# Altium schematic symbol library IR-Sensor.SCHLIB: 32 symbols
Pins are listed as number, name and electrical type; pins without a type are passive.

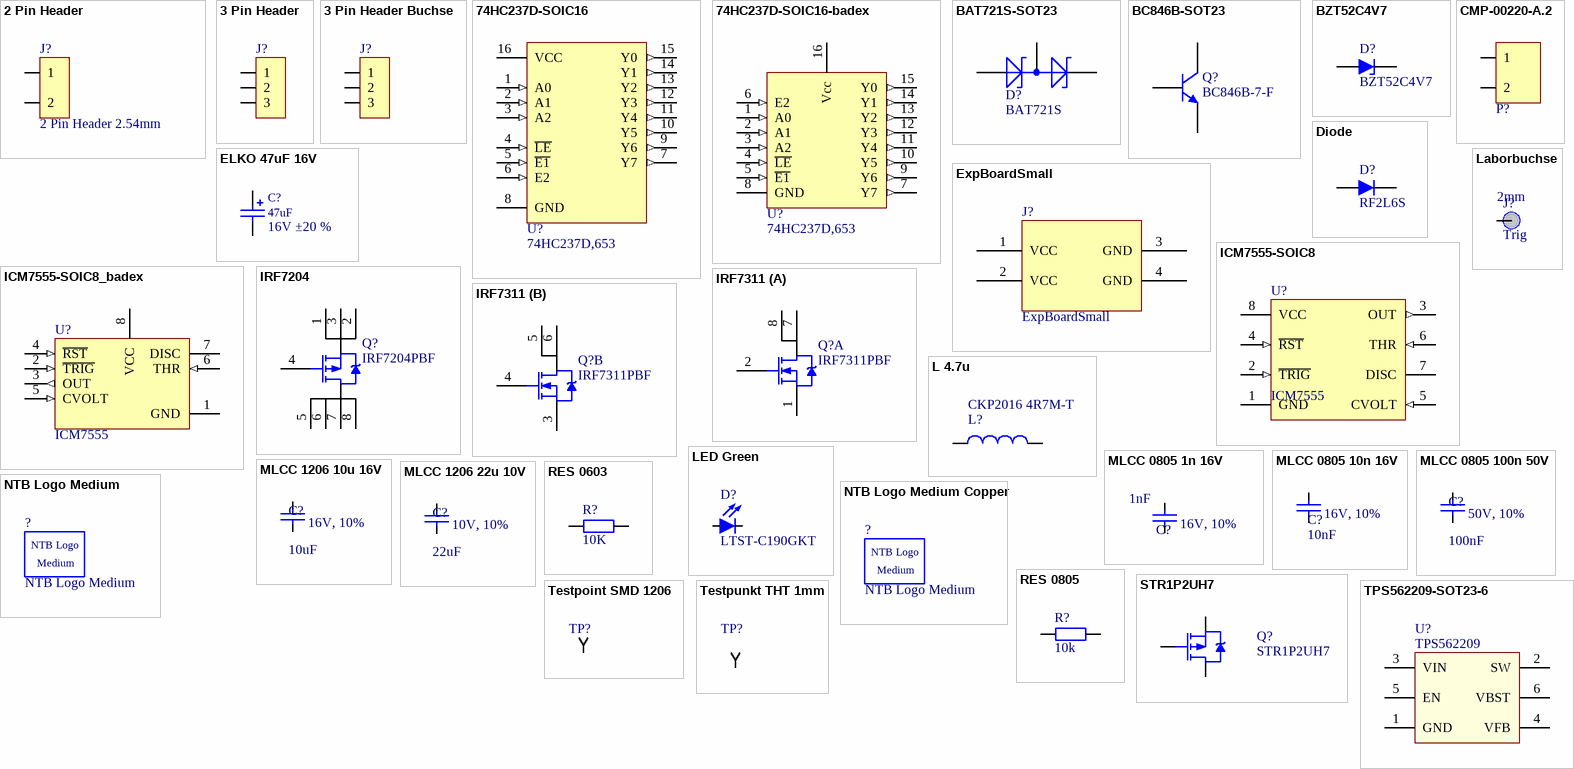
[diagram p0: symbols 2 Pin Header to TPS562209-SOT23-6]

## 2 Pin Header
designator J?, comment 2 Pin Header 2.54mm
footprint 2Pin Header 2.54mm
pins: 1, 2

## 3 Pin Header
designator J?  (value not drawn)
3 Pin Header 2.54mm; RefFootprint: GEN_Buchsenleiste-2.54MM_3; RefSchema: Gen_Buchsenleiste_3-Pin; #Class: *; #SubClass: *; Manufacturer: *; Manufacturer PartNr: *; Published: 16.12.2014; Publisher: SCLM; RefFileFOO: *; RefFileSCH: *; ComponentLink1Description: Manufacturer Link; ComponentLink1URL: *; ComponentLink2Description: Datasheet; ComponentLink2URL: *; Status: Lager?
footprint 3PIN HEADER 2.54MM
pins: 1, 2, 3

## 3 Pin Header Buchse
designator J?  (value not drawn)
3 Pin Header 2.54mm Buchse; #Class: *; #SubClass: *; Manufacturer: *; Manufacturer PartNr: *; ComponentLink1Description: Manufacturer Link; ComponentLink1URL: *; ComponentLink2Description: *; ComponentLink2URL: *
footprint 3PIN HEADER SOCKET 2.54MM
pins: 1, 2, 3

## 74HC237D-SOIC16
designator U?, comment 74HC237D,653
3-to-8 line decoder, demultiplexer, NXP, SO16; RefFootprint: NXP_SO16(SOT109-1)_H; RefSchema: NXP_74HC237D_SO-16; Supplier 1: Mouser Electronics; Supplier Part Number 1: 771-HC237D653; Manufacturer PartNr: 74HC237D,653; Status: nLager; #Class: *; #SubClass: *; Manufacturer: NXP; Published: 28.11.2014; Publisher: SCLM; RefFileFOO: *; RefFileSCH: *; ComponentLink1Description: Manufacturer Link; ComponentLink1URL: http://www.nxp.com/products/logic/decoders_demultiplexers/74HC237D.html; ComponentLink2Description: Datasheet; ComponentLink2URL: http://www.nxp.com/documents/data_sheet/74HC237.pdf
footprint SOIC-16
pins: 1 A0 (in), 2 A1 (in), 3 A2 (in), 4 ~{LE} (in), 5 ~{E1} (in), 6 E2 (in), 7 Y7 (out), 8 GND (power), 9 Y6 (out), 10 Y5 (out), 11 Y4 (out), 12 Y3 (out), 13 Y2 (out), 14 Y1 (out), 15 Y0 (out), 16 VCC (power)

## 74HC237D-SOIC16-badex
designator U?, comment 74HC237D,653
3-to-8 line decoder, demultiplexer, NXP, SO16; RefFootprint: NXP_SO16(SOT109-1)_H; RefSchema: NXP_74HC237D_SO-16; Supplier 1: Mouser Electronics; Supplier Part Number 1: 771-HC237D653; Manufacturer PartNr: 74HC237D,653; Status: nLager; #Class: *; #SubClass: *; Manufacturer: NXP; Published: 28.11.2014; Publisher: SCLM; RefFileFOO: *; RefFileSCH: *; ComponentLink1Description: Manufacturer Link; ComponentLink1URL: http://www.nxp.com/products/logic/decoders_demultiplexers/74HC237D.html; ComponentLink2Description: Datasheet; ComponentLink2URL: http://www.nxp.com/documents/data_sheet/74HC237.pdf
footprint SOIC-16
pins: 1 A0 (in), 2 A1 (in), 3 A2 (in), 4 ~{LE} (in), 5 ~{E1} (in), 6 E2 (in), 7 Y7 (out), 8 GND (power), 9 Y6 (out), 10 Y5 (out), 11 Y4 (out), 12 Y3 (out), 13 Y2 (out), 14 Y1 (out), 15 Y0 (out), 16 Vcc (power)

## BAT721S-SOT23
designator D?, comment BAT721S
NXP  BAT721S  SCHOTTKY-DIODE, 2FACH; RefFootprint: CDE_CAP AVE CODE D; RefSchema: CDE_AVE476M16D16T-F_AVE CODE D; ComponentLink1Description: Manufacturer Link; ComponentLink1URL: http://www.nxp.com/search?q=%09bat721s&type=keyword&rows=10; ComponentLink2Description: Datasheet; ComponentLink2URL: http://www.farnell.com/datasheets/453891.pdf; ComponentLink3Description: Packaging Specification; Distributor: Farnell; Distributor PartNr: 1081200; Manufacturer: NXP; Manufacturer PartNr: BAT721S; Published: 20150612; Publisher: SCNP
footprint SOT-23
pins: 1 Anode1, 2 cathode2, 3 Cathode1, anode2

## BC846B-SOT23
designator Q?, comment BC846B-7-F
NPN General-purpose Transistor; Manufacturer: DIODES INC; #Class: SEMICONDUCTOR-TRANSISTOR; #ClassSub: BJT-NPN; RefFootprint: DIODS_SOT23_1B2E3C_3_H; RefSchema: DIODS_BC846B-7-F_SOT23; Published: 17-Sep-2003; Publisher: Altium Limited; ComponentLink1Description: Manufacturer Link; ComponentLink1URL: http://www.diodes.com/products/catalog/detail.php?item-id=6689&popup=datasheet; ComponentLink2Description: Datasheet; ComponentLink2URL: http://www.diodes.com/datasheets/ds11108.pdf; ComponentLink3Description: Packaging Specification; ComponentLink3URL: http://www.diodes.com/datasheets/ap02001.pdf; Distributor: Farnell; Manufacturer PartNr: BC846B-7-F; Distributor PartNr: 1773617; Status: nLager; RefFileFOO: *; RefFileSCH: *
footprint SOT-23
pins: 1 B, 2 E, 3 C

## BZT52C4V7
designator D?
4.7V Zener-Diode, BZT52C4V7; Forward Current: 1.5 A; Forward Voltage: 1.25V; Reverse Voltage: 600V; ComponentLink1Description: Datasheet RF2L6S; ComponentLink1URL: V:\Diodes\RHOM_RF2L6S.pdf
footprint SOD-123 (SOD-123, 2 leads, plastic surface-mounted package)
pins: 1 K, 2 A

## CMP-00220-A.2
designator P?, comment 2 Pin Phoenix Contact Connector, 5mm  (value not drawn)
Phoenix Contact: PST1.3/2-5.0 with PTS1.5/2-PH-5.0
footprint 2 Pin Phoenix Contakt Stecker (PST-1.3/2-5.0)
pins: 1, 2

## Diode
designator D?, comment RF2L6S
Super Fast Recovery Rectifier; Forward Current: 1.5 A; Forward Voltage: 1.25V; Reverse Voltage: 600V; ComponentLink1Description: Datasheet RF2L6S; ComponentLink1URL: V:\Diodes\RHOM_RF2L6S.pdf
footprint SOD-106 (SOD-106, 2-Leads, Body 4.50x2.60mm, IPC Medium Density)
pins: 1 K, 2 A

## ELKO 47uF 16V
designator C?, comment value 47uF  ValueAddon: 16V ±20 %  (hidden comment: AVE476M16D16T-F)
ELKO, 47uF, 16V, CDE_AVE476M16D16T-F_AVE CODE D; Manufacturer: Cornell Dubilier; #Class: PASSIVE; #ClassSub: CAPACITOR; RefFootprint: CDE_CAP AVE CODE D; Distributor PartNr: 598-AVE476M16D16T-F; Distributor: Mouser; Published: 20121220; Publisher: Stefan Ursella, M.Eng; ComponentLink1Description: Manufacturer Link; ComponentLink2Description: Datasheet; ComponentLink2URL: http://www.cde.com/catalogs/AVE.pdf; ComponentLink3Description: Packaging Specification; Manufacturer PartNr: AVE476M16D16T-F; RefFileFOO: *; RefFileSCH: *; RefSchema: CDE_AVE476M16D16T-F_AVE CODE D
footprint CDE_CAP AVE CODE D_H (6.6mm-6.6mm-5.3mm_2Pin, Size Code D)
pins: 1 Pos, 2 Neg

## ExpBoardSmall
designator J?
footprint EXPBOARDCON (Experimetier Board Steckerpos)
pins: 1 VCC, 2 VCC, 3 GND, 4 GND

## ICM7555-SOIC8
designator U?, comment ICM7555
General purpose CMOS timer; Manufacturer: National Semiconductor; #Class: Analog; #SubClass: Timer Circuit; RefFootprint: NXP_SO8(SOT96-1)_H; RefSchema: NXP_ICM7555_SO-8; Published: 15/04/2002; Publisher: Altium Hobart Technology Centre; ComponentLink1Description: Datasheet; ComponentLink2Description: Distributor; ComponentLink1URL: http://www.datasheetcatalog.org/datasheet/intersil/fn2867.pdf; ComponentLink2URL: https://www.distrelec.ch/ishopWebFront/catalog/product.do/para/node/is/acaaabaaacaf/and/highlightNode/is/640145/and/id/is/01/and/series/is/1.html; Supplier 1: Mouser Electronics; Manufacturer PartNr: ICM7555; Supplier Part Number 1: 771-ICM7555; RefFileFOO: *; RefFileSCH: *; Status: nLager
footprint SOIC-8
pins: 1 GND (power), 2 ~{TRIG} (in), 3 OUT (out), 4 ~{RST} (in), 5 CVOLT (in), 6 THR (in), 7 DISC (oc), 8 VCC (power)

## ICM7555-SOIC8_badex
designator U?, comment ICM7555
General purpose CMOS timer; Manufacturer: National Semiconductor; #Class: Analog; #SubClass: Timer Circuit; RefFootprint: NXP_SO8(SOT96-1)_H; RefSchema: NXP_ICM7555_SO-8; Published: 15/04/2002; Publisher: Altium Hobart Technology Centre; ComponentLink1Description: Datasheet; ComponentLink2Description: Distributor; ComponentLink1URL: http://www.datasheetcatalog.org/datasheet/intersil/fn2867.pdf; ComponentLink2URL: https://www.distrelec.ch/ishopWebFront/catalog/product.do/para/node/is/acaaabaaacaf/and/highlightNode/is/640145/and/id/is/01/and/series/is/1.html; Supplier 1: Mouser Electronics; Manufacturer PartNr: ICM7555; Supplier Part Number 1: 771-ICM7555; RefFileFOO: *; RefFileSCH: *; Status: nLager
footprint SOIC-8
pins: 1 GND (power), 2 ~{TRIG} (in), 3 OUT (out), 4 ~{RST} (in), 5 CVOLT (in), 6 THR (in), 7 DISC (oc), 8 VCC (power)

## IRF7204
designator Q?, comment IRF7204PBF
High Power P-Kanal Mosfet; Manufacturer: International Rectifiers; RefFootprint: IRF_SO8_H; RefSchema: IRF_IRF7204_SO-8; Published: 8-Jun-2000; Publisher: Altium Limited; ComponentLink1Description: Manufacturer Link; ComponentLink1URL: http://www.irf.com/; ComponentLink2Description: Datasheet; ComponentLink2URL: http://www.irf.com/product-info/datasheets/data/irf7204.pdf; Manufacturer PartNr: IRF7204PBF; Supplier Part Number 1: 9103350; Supplier 1: Farnell; RefFileFOO: *; RefFileSCH: *; Status: nLager; #Class: *; #SubClass: *
footprint SOIC-8
pins: 1 S, 2 S, 3 S, 4 G, 5 D, 6 D, 7 D, 8 D

## IRF7311
designator Q?, comment IRF7311PBF
Dual N-Kanal Mosfet; Manufacturer: International Rectifier; RefFootprint: IRF_SO8_H; RefSchema: IRF_IRF7311_SO-8; Published: 8-Jun-2000; Publisher: Altium Limited; ComponentLink1Description: Manufacturer Link; ComponentLink1URL: http://www.irf.com/; ComponentLink2Description: Datasheet; ComponentLink2URL: http://www.irf.com/product-info/datasheets/data/irf7311.pdf; Supplier 1: Farnell; Manufacturer PartNr: IRF7311PBF; Supplier Part Number 1: 1013364; RefFileFOO: *; RefFileSCH: *; #Class: *; #SubClass: *; Status: nLager
footprint SOIC-8
part A pins: 1 S, 2 G, 7 D, 8 D
part B pins: 3 S, 4 G, 5 D, 6 D

## L 4.7u
designator L?, comment CKP2016 4R7M-T
MULTILAYER CHIP POWER INDUCTORS; Manufactor: Taiyo Yuden; Current Rating: 900mA; DCR: 160mOhm; Inductance: 4u7; ComponentLink1Description: Datasheet Taiyo Yuden CK Series; ComponentLink1URL: V:\Inductor\Taiyo_Yuden_CK_Series.pdf
footprint IND-0806
pins: 1, 2

## Laborbuchse
designator J?, comment Trig  Size: 2mm
Laborbuchse; #Class: Connector; RefFootprint: Laborbuchse 2mm; Publisher: B.Sc. Ursella; #ClassSub: Laborbuchse; Published: 2008-12-16; Status: nLager; RefFileFOO: *; RefFileSCH: *; RefSchema: Laborbuchse
footprint Laborbuchse 2mm
pins: 1

## LED Green
designator D?, comment LTST-C190GKT
LED SMD 0603 green 6mcd; Forward Current: 30mA; Forward Voltage: 2.1V; Spectrum: 565nm; Color: green; ComponentLink1Description: Datasheet LTST-C190GKT; ComponentLink1URL: V:\Diodes\Lite-On-LTST-C190GKT.pdf
footprint LED 0603 green
pins: 1 K, 2 A

## MLCC 0805 1n 16V
designator C?, comment 1nF  ValueAddon: 16V, 10%
MLCC - SMD/SMT 0805 1000pF 16V C0G 10%; Manufacturer: Vishay; Manufacturer PartNr: VJ0805A102KXJPW1BC; RefFootprint: Gen_0805_H; RefSchema: Cap_1nF; #Class: *; #SubClass: *; Published: 18.12.14; Publisher: SCLM; RefFileFOO: *; RefFileSCH: *; ComponentLink1Description: Manufacturer Link; ComponentLink1URL: http://www.vishay.com/product?docid=28548; ComponentLink2Description: Datasheet; ComponentLink2URL: http://www.vishay.com/docs/28548/vjw1bcbascomseries.pdf; Supplier 1: Mouser; Supplier Part Number 1: 77-VJ0805A102KXJPBC; Status: Lager?; Value: 1nF
footprint CAP-0805[2012]
pins: 1 Pos, 2 Neg

## MLCC 0805 10n 16V
designator C?, comment 10nF  ValueAddon: 16V, 10%
10n 16V X7R MLCC 0805; Manufacturer: AVX; Manufacturer PartNr: 0805YC103KAT2A; #Class: *; #SubClass: *; Published: 09.01.15; Publisher: SCLM; RefFootprint: *; RefFileFOO: *; RefFileSCH: *; RefSchema: *; ComponentLink1Description: Manufacturer Link; ComponentLink1URL: http://www.avx.com/prodinfo_productdetail.asp?I=45&K=search&C=&word=0805YC103KAT2A&form=number&Number=; ComponentLink2Description: Datasheet; ComponentLink2URL: http://www.farnell.com/datasheets/1679506.pdf; Status: LAger?; Value: 10nF
footprint CAP-0805[2012]
pins: 1 Pos, 2 Neg

## MLCC 0805 100n 50V
designator C?, comment 100nF  ValAddon: 50V, 10%
100n 50V X7R MLCC 0805 (1608 Metric); Tolerance: 10%; Case-EIA: 0803; Case-Metric: 2013; Rated Voltage: 50V; Temperature Characteristics EIA: X7R; Temperature Range EIA: -55C/+125C; Value: 100nF
footprint CAP-0805[2012]
pins: 1 Pos, 2 Neg

## MLCC 1206 10u 16V
designator C?, comment 10uF  ValAddon: 16V, 10%
10u 16V X7R MLCC 1206 (3016 Metric); Rated Voltage: 10V; Tolerance: 10%; Case-EIA: 1206; Case-Metric: 3216; Temperature Characteristics EIA: X7R; Temperature Range EIA: -55C/+125C; Value: 10uF
footprint CAP-1206[3216]
pins: 1 Pos, 2 Neg

## MLCC 1206 22u 10V
designator C?, comment 22uF  ValAddon: 10V, 10%
22u 10V X7R MLCC 1206 (3016 Metric); Tolerance: 10%; Case-EIA: 1206; Case-Metric: 3216; Rated Voltage: 10V; Temperature Characteristics EIA: X7R; Temperature Range EIA: -55C/+125C; Value: 22uF
footprint CAP-1206[3216]
pins: 1 Pos, 2 Neg

## NTB Logo Medium
designator ?
footprint NTB Logo Medium
text: NTB Logo; Medium

## NTB Logo Medium Copper
designator ?, comment NTB Logo Medium
footprint NTB Logo Medium Copper
text: NTB Logo; Medium

## RES 0603
designator R?, comment 10K
0603 (1608 Metric) 1/10 W 10K 1 Thick Film Chip Resistor; Power: 1/10 W; Case-EIA: 0603; Case-Metric: 1608; Tolerance: 1%; Temp. Coefficent: ±100ppm; Technology: SMT; Value: 10K
footprint RES-0603[1608]
pins: 1, 2

## RES 0805
designator R?, comment 10k
0805 (2013 Metric) 1/10 W 10K 1 Thick Film Chip Resistor; Power: 1/10 W; Case-EIA: 0805; Case-Metric: 2013; Tolerance: 1%; Temp. Coefficent: ±100ppm; Technology: SMT; Value: 10k
footprint RES-0805[2012]
pins: 1, 2

## STR1P2UH7
designator Q?
Low Power P-Kanal Mosfet; Manufacturer: ST Microelectronics; Rdson: 100mOhm; Vde: 30; ComponentLink1Description: Manufacturer Link; ComponentLink2Description: Datasheet
footprint SOT-23
pins: 1 G, 2 S, 3 D

## Testpoint SMD 1206
designator TP?  (value not drawn)  (no BOM)
Testpoint xSmall; Type: Standard (No BOM)
footprint TP-SMD-1206
pins: 1 0

## Testpunkt THT 1mm
designator TP?  (value not drawn)
Manufacturer: Keystone Electronics; #Class: Connector; #ClassSub: Laborbuchse; RefFootprint: GEN_TP-THT-1.1mm_1_H; RefSchema: Testpunkt 1mm; Publisher: B.Sc. Ursella; Published: 2008-12-16; Supplier 1: Mouser; Supplier Part Number 1: 534-1035; Status: nLager; FootprintRef: GEN_TP-THT-1.1mm_1_H; RefFileFOO: *; RefFileSCH: *
footprint TP-THT-1.1mm
pins: 1 0

## TPS562209-SOT23-6
designator U?, comment TPS562209
3-A Synchronous Step-Down Voltage Regulator; Manufactor: Texas Instruments; Order Nr.: TPS562209DDCR; ComponentLink1Description: Datasheet TPS56x209; ComponentLink1URL: V:\Power_Management_ICs\PWM_Cont\TPS56x209.pdf
footprint SOT-23-6
pins: 1 GND, 2 SW, 3 VIN, 4 VFB, 5 EN, 6 VBST